# Altium schematic symbol library 2019_10_ELEV_18_IO.SchLib: 2 symbols
Pins are listed as number, name and electrical type; pins without a type are passive.

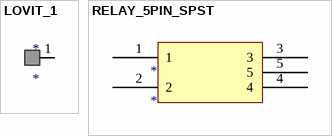
[diagram p0: symbols LOVIT_1 to RELAY_5PIN_SPST]

## LOVIT_1
designator *
pins: 1

## RELAY_5PIN_SPST
designator *
pins: 1, 2, 3, 4, 5